# Altium schematic symbol library BeagleBone.SchLib: 1 symbol
Pins are listed as number, name and electrical type; pins without a type are passive.

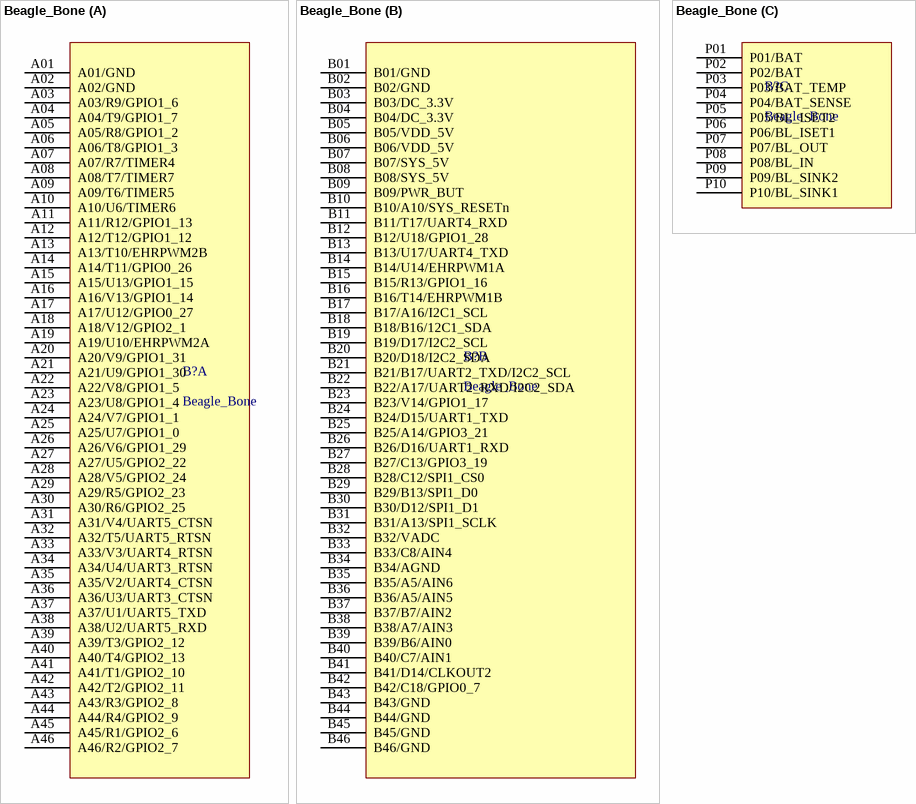
[diagram p0: symbol Beagle_Bone]

## Beagle_Bone
designator B?
part A pins: A01 A01/GND, A02 A02/GND, A03 A03/R9/GPIO1_6, A04 A04/T9/GPIO1_7, A05 A05/R8/GPIO1_2, A06 A06/T8/GPIO1_3, A07 A07/R7/TIMER4, A08 A08/T7/TIMER7, A09 A09/T6/TIMER5, A10 A10/U6/TIMER6, A11 A11/R12/GPIO1_13, A12 A12/T12/GPIO1_12, A13 A13/T10/EHRPWM2B, A14 A14/T11/GPIO0_26, A15 A15/U13/GPIO1_15, A16 A16/V13/GPIO1_14, A17 A17/U12/GPIO0_27, A18 A18/V12/GPIO2_1, A19 A19/U10/EHRPWM2A, A20 A20/V9/GPIO1_31, A21 A21/U9/GPIO1_30, A22 A22/V8/GPIO1_5, A23 A23/U8/GPIO1_4, A24 A24/V7/GPIO1_1, A25 A25/U7/GPIO1_0, A26 A26/V6/GPIO1_29, A27 A27/U5/GPIO2_22, A28 A28/V5/GPIO2_24, A29 A29/R5/GPIO2_23, A30 A30/R6/GPIO2_25, A31 A31/V4/UART5_CTSN, A32 A32/T5/UART5_RTSN, A33 A33/V3/UART4_RTSN, A34 A34/U4/UART3_RTSN, A35 A35/V2/UART4_CTSN, A36 A36/U3/UART3_CTSN, A37 A37/U1/UART5_TXD, A38 A38/U2/UART5_RXD, A39 A39/T3/GPIO2_12, A40 A40/T4/GPIO2_13, A41 A41/T1/GPIO2_10, A42 A42/T2/GPIO2_11, A43 A43/R3/GPIO2_8, A44 A44/R4/GPIO2_9, A45 A45/R1/GPIO2_6, A46 A46/R2/GPIO2_7
part B pins: B01 B01/GND, B02 B02/GND, B03 B03/DC_3.3V, B04 B04/DC_3.3V, B05 B05/VDD_5V, B06 B06/VDD_5V, B07 B07/SYS_5V, B08 B08/SYS_5V, B09 B09/PWR_BUT, B10 B10/A10/SYS_RESETn, B11 B11/T17/UART4_RXD, B12 B12/U18/GPIO1_28, B13 B13/U17/UART4_TXD, B14 B14/U14/EHRPWM1A, B15 B15/R13/GPIO1_16, B16 B16/T14/EHRPWM1B, B17 B17/A16/I2C1_SCL, B18 B18/B16/12C1_SDA, B19 B19/D17/I2C2_SCL, B20 B20/D18/I2C2_SDA, B21 B21/B17/UART2_TXD/I2C2_SCL, B22 B22/A17/UART2_RXD/I2C2_SDA, B23 B23/V14/GPIO1_17, B24 B24/D15/UART1_TXD, B25 B25/A14/GPIO3_21, B26 B26/D16/UART1_RXD, B27 B27/C13/GPIO3_19, B28 B28/C12/SPI1_CS0, B29 B29/B13/SPI1_D0, B30 B30/D12/SPI1_D1, B31 B31/A13/SPI1_SCLK, B32 B32/VADC, B33 B33/C8/AIN4, B34 B34/AGND, B35 B35/A5/AIN6, B36 B36/A5/AIN5, B37 B37/B7/AIN2, B38 B38/A7/AIN3, B39 B39/B6/AIN0, B40 B40/C7/AIN1, B41 B41/D14/CLKOUT2, B42 B42/C18/GPIO0_7, B43 B43/GND, B44 B44/GND, B45 B45/GND, B46 B46/GND
part C pins: P01 P01/BAT, P02 P02/BAT, P03 P03/BAT_TEMP, P04 P04/BAT_SENSE, P05 P05/BL_ISET2, P06 P06/BL_ISET1, P07 P07/BL_OUT, P08 P08/BL_IN, P09 P09/BL_SINK2, P10 P10/BL_SINK1